# Altium footprint library Switches-relays.PcbLib: 70 footprints (part 5 of 5)
Each footprint in its own frame and in the unit in brackets; x right, y up, seen from the top. Pads: shape width x height; smd on the part's side, far side on the other; paste and mask are expansions set on the pad; w line width, h text height; cw(c..) or ccw(c..) is an arc to the next point about the centre after c.
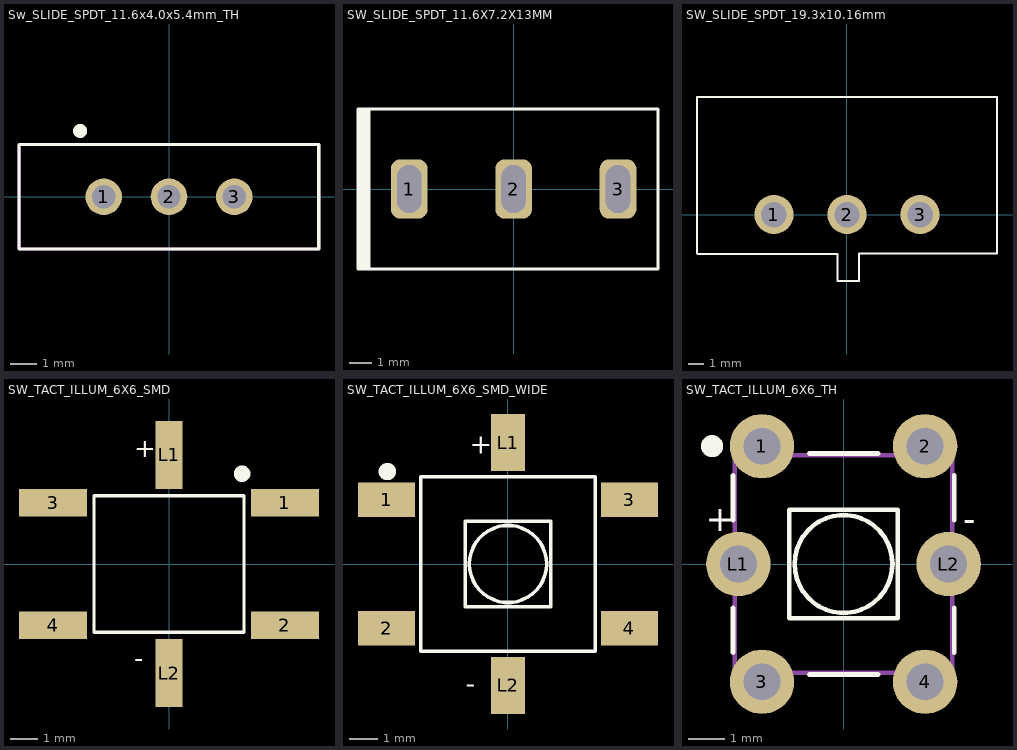
[diagram p4: the footprints below, top view; thin cyan lines are the x and y axes]

## Sw_SLIDE_SPDT_11.6x4.0x5.4mm_TH [mil] "/ 20190916 / C-D Viveros"
pads (3):
  round 55 hole 35: 1(-98.43,0) 2(0,0) 3(98.43,0)
Top Overlay:
  circle w15: c-133.86,99.21 r3
  lines w5: 225.71,-78.74 225.71,78.74 ; 225.98,-78.74 -225.98,-78.74 -225.98,78.74 225.98,78.74
Mechanical 1:
  lines w5: -225.98,-78.74 225.98,-78.74 ; -225.84,-78.74 -225.84,78.74 225.86,78.74 225.86,-78.74
3D body "User Library-EG1218.STEP": height 291.84, standoff -184.54, extent -228.33,-78.73 228.36,78.75

## SW_SLIDE_SPDT_11.6X7.2X13MM [mil] "20220902 / E.Naranjo"
pads (3):
  rrect50% 65x105 hole 43.31 slot 85 at 90 deg mask+4: 1(-185.04,0) 2(0,0) 3(185.04,0)
Top Overlay:
  region: -275.88,141.73 -255.9,141.73 -255.9,-141.73 -275.88,-141.73
  lines w5: -255.9,-141.73 -255.9,141.73 ; -255.9,-141.73 255.91,-141.73 255.91,141.73 -255.9,141.73 ; -255.9,-141.73 -275.88,-141.73 -275.88,141.73 -255.9,141.73
3D body "SS-12M11G3.stp": height 377.95, standoff -137.8, extent -255.9,-141.73 255.9,141.74

## SW_SLIDE_SPDT_19.3x10.16mm [mil] "20190425 / V-A.Patino"
pads (3):
  round 100 hole 65: 1(-187.01,0) 2(0,0) 3(187.01,0)
Top Overlay:
  lines w5: -383.86,-100 -383.86,300.79 383.86,300.79 383.86,-100 31.1,-100 31.1,-169.69 -24.41,-169.69 -24.41,-100.79 -383.07,-100.79
3D body "L102021ML04Q.STEP": height 397.6, standoff -170.4, extent -377.01,-170.01 382.99,629.99

## SW_TACT_ILLUM_6X6_SMD [mm] "/20210713/C-D Viveros"
pads (6):
  rect 2.5x1 smd: 1(4.25,2.25) 2(4.25,-2.25) 3(-4.25,2.25) 4(-4.25,-2.25)
  rect 1x2.5 smd: L1(0,4) L2(0,-4)
Top Overlay:
  circle w0.508: c2.68,3.31 r0.05
  lines w0.127: -2.75,-2.5 -2.75,2.5 2.75,2.5 2.75,-2.5 -2.75,-2.5
  text "-" at -1.27,-3.778 h0.69
  text "+" at -1.27,3.905 h0.69
3D body "TS8-0000WA053.step": height 7.2, standoff 0, extent -5.01,-5 4.99,5

## SW_TACT_ILLUM_6X6_SMD_WIDE [mm] "/20230425/J-A.Sepulveda"
pads (6):
  rect 2x1.2 smd: 1(-4.25,2.25) 2(-4.25,-2.25) 3(4.25,2.25) 4(4.25,-2.25)
  rect 1.2x2 smd: L1(0,4.25) L2(0,-4.25)
Top Overlay:
  circle w0.508: c-4.22,3.236 r0.05
  circle w0.127: c0,0 r1.35
  lines w0.127: -3.05,-3.05 -3.05,3.05 3.05,3.05 3.05,-3.05 -3.05,-3.05 ; -1.5,-1.5 -1.5,1.5 1.5,1.5 1.5,-1.5 -1.5,-1.5
  text "+" at -1.34,3.85 h0.69
  text "-" at -1.48,-4.53 h0.69
3D body "TS8-0000WA053.step": height 7.2, standoff 0, extent -5,-5 5,5

## SW_TACT_ILLUM_6X6_TH [mil] "/20210812/C-D Viveros"
pads (6):
  round 70 hole 40: 1(-88.58,127.95) 2(88.58,127.95) 3(-88.58,-127.95) 4(88.58,-127.95) L1(-114.17,0) L2(114.17,0)
Top Overlay:
  circle w20: c-142.78,128 r1.97
  circle w5: c0,0 r53.15
  lines w5: -120.08,-96.46 -120.08,-47.64 ; -120.08,47.64 -120.08,96.46 ; -37.4,-120.08 37.4,-120.08 ; -37.4,120.08 37.4,120.08 ; 120.08,-96.46 120.08,-47.64 ; 120.08,47.64 120.08,96.46 ; -59.06,-59.06 -59.06,59.06 59.06,59.06 59.06,-59.06 -59.06,-59.06
  text "+" at -149.61,35.83 h27.2
  text "-" at 129.92,35.83 h27.2
Mechanical 1:
  lines w5: -88.58,-118.11 88.58,-118.11 ; -118.11,-118.11 -118.11,118.11 118.11,118.11 118.11,-118.11 -118.11,-118.11
3D body "TS8-0000W (1).stp": height 283.96, standoff -245.56, extent -131.89,-153.46 131.89,153.49